# Altium footprint library D_HMI.PcbLib: 1 footprints
Each footprint in its own frame and in the unit in brackets; x right, y up, seen from the top. Pads: shape width x height; smd on the part's side, far side on the other; paste and mask are expansions set on the pad; w line width, h text height; cw(c..) or ccw(c..) is an arc to the next point about the centre after c.
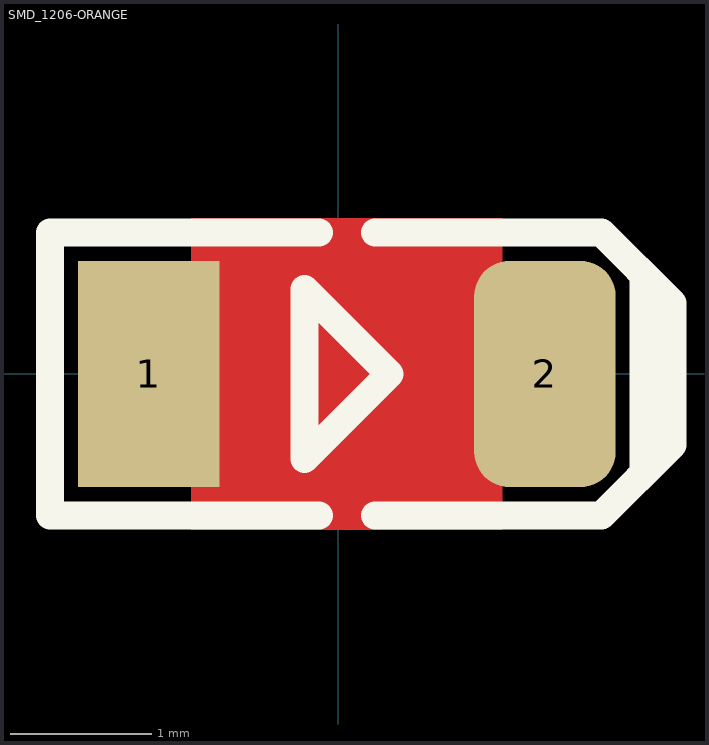
[diagram p0: the footprint, top view; thin cyan lines are the x and y axes]

## SMD_1206-ORANGE [mm]
pads (2):
  rect 1x1.6 smd mask+0.075: 1(-1.337,-0.003)
  rrect50% 1x1.6 smd mask+0.075: 2(1.463,-0.003)
Top Layer:
  pour cut-out: -1.037,1.097 -1.037,-1.103 1.163,-1.103 1.163,1.097
Top Overlay:
  region: 2.063,0.697 2.063,-0.703 2.363,-0.403 2.363,0.397
  lines w0.2: -0.137,-1.003 -2.037,-1.003 -2.037,0.997 -0.137,0.997 ; 0.263,-1.003 1.863,-1.003 2.363,-0.503 2.363,0.497 1.863,0.997 0.263,0.997 ; -0.237,-0.603 -0.237,0.597 0.363,-0.003 -0.237,-0.603
3D body "User Library-Wurth Elektronik WL-SMCW 1206 (3216) LED Base (Separate Lens).step": height 0.62, standoff 0, extent -1.537,-0.803 1.663,0.797
3D body "User Library-Wurth Elektronik WL-SMCW 1206 (3216) LED Lens (Separate Body).step": height 0.68, standoff 0.28, extent -0.937,-0.803 1.063,0.797